# Altium schematic symbol library Transistors.SchLib: 8 symbols
Pins are listed as number, name and electrical type; pins without a type are passive.

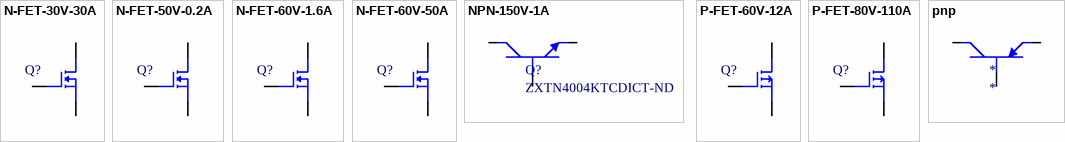
[diagram p0: symbols N-FET-30V-30A to pnp]

## N-FET-30V-30A
designator Q?, comment 1727-7117-1-ND  (value not drawn)
MOSFET N-CH 30V 30A D2PAK; Manufacturer: NXP Semiconductors; Manufacturer Part Number: PSMN022-30BL,118; Description: PSMN022-30BL - N-channel 30 V 22.6 m? logic level MOSFET in D2PAK; Rds On Max: 22.6mR; Input Capacitance: 447pF; Rise Time: 29ns; Max Power Dissipation: 41W; Gate to Source Voltage (Vgs): 20V; Turn-On Delay Time: 12ns; Turn-Off Delay Time: 17ns; Fall Time: 7ns; Number of Elements: 1; Element Configuration: Single; Supplier 1: Digi-Key; Stock 1: 3268; Pricing 1: 1=0.82, 10=0.721, 25=0.6776, 100=0.4919, 250=0.47436 (USD); Case/Package: SOT; Number of Pins: 3; Contact Plating: Tin; Min Operating Temperature: -55°C; Max Operating Temperature: 175°C; Package Quantity: 1; Packaging: Tape and Reel; Max Dual Supply Voltage: 30V; Drain to Source Voltage (Vdss): 30V; Continuous Drain Current (ID): 30A; Drain to Source Breakdown Voltage: 30V; Drain to Source Resistance: 22.6mR; Power Dissipation: 41W; Radiation Hardening: No; Lead Free: Lead Free; ComponentLink1URL: http://www.nxp.com/documents/data_sheet/PSMN022-30BL.pdf?src-supplier=Digi-Key; ComponentLink1Description: http://www.nxp.com/documents/data_sheet/PSMN022-30BL.pdf?src-supplier=Digi-Key; ComponentLink2URL: http://www.nxp.com/documents/data_sheet/PSMN022-30BL.pdf?src-supplier=Avnet; ComponentLink2Description: http://www.nxp.com/documents/data_sheet/PSMN022-30BL.pdf?src-supplier=Avnet; ComponentLink3URL: http://www.nxp.com/documents/data_sheet/PSMN022-30BL.pdf?src-supplier=Mouser; ComponentLink3Description: http://www.nxp.com/documents/data_sheet/PSMN022-30BL.pdf?src-supplier=Mouser; Supplier Part Number 1: 1727-7117-6-ND
footprint DPAK-TO263 (D2-PAK, 3-Pads, Body 8.00x8.51mm (max), IPC Medium Density)
pins: 1, 2, 3

## N-FET-50V-0.2A
designator Q?, comment BSS138LT3GOSCT-ND  (value not drawn)
MOSFET N-CH 50V 200MA SOT-23; Manufacturer: ON Semiconductor; Description: MOSFET N-Channel 50V 0.2A SOT23; Nominal Vgs: 500mV; Input Capacitance: 50pF; Number of Elements: 1; Max Power Dissipation: 225mW; Rds On Max: 3.5R; Turn-Off Delay Time: 20ns; Element Configuration: Single; Gate to Source Voltage (Vgs): 20V; Supplier 1: Digi-Key; Manufacturer Part Number: BSS138LT3G; Stock 1: 141691; Pricing 1: 1=0.25, 10=0.205, 25=0.172, 100=0.084, 250=0.08272, 500=0.0701, 1000=0.04871, 2500=0.04527, 5000=0.03916 (USD); Case/Package: SOT-23-3; Number of Pins: 3; Min Operating Temperature: -55°C; Max Operating Temperature: 150°C; Package Quantity: 1; Packaging: Tape and Reel; Drain to Source Voltage (Vdss): 50V; Continuous Drain Current (ID): 200mA; Drain to Source Breakdown Voltage: 50V; Power Dissipation: 225mW; Drain to Source Resistance: 3.5R; Threshold Voltage: 500mV; Turn-On Delay Time: 20ns; Voltage Rating (DC): 50V; Current Rating: 200mA; On-State Resistance: 3.5R; Length: 2.9mm; Height: 0.94mm; Width: 1.3mm; Radiation Hardening: No; REACH SVHC: No SVHC; Lead Free: Lead Free; Halogen Free: Halogen Free; ComponentLink1URL: http://www.onsemi.com/pub/Collateral/BSS138LT1-D.PDF?src-supplier=Digi-Key; ComponentLink1Description: http://www.onsemi.com/pub/Collateral/BSS138LT1-D.PDF?src-supplier=Digi-Key; ComponentLink2URL: http://www.farnell.com/datasheets/2353875.pdf?src-supplier=Element14; ComponentLink2Description: http://www.farnell.com/datasheets/2353875.pdf?src-supplier=Element14; ComponentLink3URL: http://www.onsemi.com/pub_link/Collateral/BSS138LT1-D.PDF?src-supplier=Avnet; ComponentLink3Description: http://www.onsemi.com/pub_link/Collateral/BSS138LT1-D.PDF?src-supplier=Avnet; ComponentLink4URL: https://www.verical.com/server-webapp/html/getDatasheet?partID=141721&src-supplier=Verical; ComponentLink4Description: https://www.verical.com/server-webapp/html/getDatasheet?partID=141721&src-supplier=Verical; ComponentLink5URL: http://www.onsemi.com/pub_link/Collateral/BSS138LT1-D.PDF?src-supplier=Future+Electronics; ComponentLink5Description: http://www.onsemi.com/pub_link/Collateral/BSS138LT1-D.PDF?src-supplier=Future+Electronics; Supplier Part Number 1: BSS138LT3GOSDKR-ND
footprint SOT-23-3 (SOT23, 3-Leads, Body 2.90x2.40mm, Pitch 0.92mm, IPC Medium Density)
pins: 1, 2, 3

## N-FET-60V-1.6A
designator Q?, comment DMN6140L-13DICT-ND  (value not drawn)
MOSFET N-CH 60V 1.6A SOT23; Manufacturer: Diodes; Rds On Max: 140mR; Input Capacitance: 315pF; Max Power Dissipation: 700mW; Supplier 1: Digi-Key; Manufacturer Part Number: DMN6140L-13; Stock 1: 274948; Pricing 1: 1=0.34, 10=0.256, 25=0.224, 100=0.1217, 250=0.12104, 500=0.09926, 1000=0.07365, 2500=0.06468, 5000=0.05924 (USD); Mount: Surface Mount; Case/Package: TO-236-3; Min Operating Temperature: -55°C; Max Operating Temperature: 150°C; Package Quantity: 10000; Packaging: Cut Tape; Drain to Source Voltage (Vdss): 60V; Continuous Drain Current (ID): 1.6A; ComponentLink1URL: https://www.diodes.com/assets/Datasheets/DMN6140L.pdf?src-supplier=Digi-Key; ComponentLink1Description: https://www.diodes.com/assets/Datasheets/DMN6140L.pdf?src-supplier=Digi-Key; Supplier Part Number 1: DMN6140L-13DIDKR-ND
footprint SOT-23-3 (SOT23, 3-Leads, Body 2.90x2.40mm, Pitch 0.92mm, IPC Medium Density)
pins: 1, 2, 3

## N-FET-60V-50A
designator Q?, comment IPD50N06S4L12ATMA2CT-ND  (value not drawn)
MOSFET N-CH 60V 50A TO252-3; Manufacturer: Infineon; Description: Trans MOSFET N-CH 60V 50A 3-Pin(2+Tab) TO-252; Rise Time: 2ns; Rds On Max: 12mR; Input Capacitance: 2.89nF; Max Power Dissipation: 50W; Turn-On Delay Time: 6ns; Turn-Off Delay Time: 25ns; Fall Time: 5ns; Gate to Source Voltage (Vgs): 16V; Manufacturer Part Number: IPD50N06S4L12ATMA2; Stock 1: 3187; Pricing 1: 1=0.92, 10=0.806, 25=0.7572, 100=0.5497, 250=0.53012, 500=0.45928, 1000=0.39088 (USD); Mount: Surface Mount; Case/Package: TO-252-3; Number of Pins: 3; Min Operating Temperature: -55°C; Max Operating Temperature: 175°C; Packaging: Tape and Reel; Drain to Source Voltage (Vdss): 60V; Continuous Drain Current (ID): 50A; Max Dual Supply Voltage: 60V; Supplier Part Number 1: IPD50N06S4L12ATMA2DKR-ND; Supplier 1: Digi-Key
footprint DPAK-TO252 (D-PAK, 3-Pads, Body 6.20x6.73mm (max), IPC Medium Density)
pins: 1, 2, 3

## NPN-150V-1A
designator Q?, comment ZXTN4004KTCDICT-ND
TRANS NPN 150V 1A TO252; Manufacturer: Diodes; Max Power Dissipation: 3.8W; Number of Elements: 1; hFE Min: 100; Emitter Base Voltage (VEBO): 7V; Element Configuration: Single; Supplier 1: Digi-Key; Manufacturer Part Number: ZXTN4004KTC; Stock 1: 16465; Pricing 1: 1=0.44, 10=0.374, 25=0.3492, 100=0.2595, 250=0.24648, 500=0.20258, 1000=0.16465 (USD); Mount: Surface Mount; Case/Package: TO-252; Number of Pins: 3; Weight: 0.063493oz; Min Operating Temperature: -55°C; Max Operating Temperature: 150°C; Packaging: Tape and Reel; Package Quantity: 2500; Polarity: NPN; Collector Emitter Voltage (VCEO): 150V; Collector Base Voltage (VCBO): 150V; Continuous Collector Current: 1A; Max Collector Current: 1A; Collector Emitter Breakdown Voltage: 150V; Max Breakdown Voltage: 150V; Power Dissipation: 3.8W; Length: 6.7mm; Height: 6.2mm; Width: 2.39mm; Radiation Hardening: No; Lead Free: Lead Free; REACH SVHC: No SVHC; ComponentLink1URL: http://www.mouser.com/ds/2/115/ZXTN4004K-219140.pdf?src-supplier=Mouser; ComponentLink1Description: http://www.mouser.com/ds/2/115/ZXTN4004K-219140.pdf?src-supplier=Mouser; ComponentLink2URL: http://www.diodes.com/datasheets/ZXTN4004K.pdf?src-supplier=Avnet; ComponentLink2Description: http://www.diodes.com/datasheets/ZXTN4004K.pdf?src-supplier=Avnet; ComponentLink3URL: http://www.diodes.com/datasheets/ZXTN4004K.pdf?src-supplier=Avnet+Europe; ComponentLink3Description: http://www.diodes.com/datasheets/ZXTN4004K.pdf?src-supplier=Avnet+Europe; ComponentLink4URL: https://www.diodes.com/assets/Datasheets/ZXTN4004K.pdf?src-supplier=Digi-Key; ComponentLink4Description: https://www.diodes.com/assets/Datasheets/ZXTN4004K.pdf?src-supplier=Digi-Key; Supplier Part Number 1: ZXTN4004KTCDIDKR-ND
footprint DPAK-TO252 (D-PAK, 3-Pads, Body 6.20x6.73mm (max), IPC Medium Density)
pins: 1, 2, 3

## P-FET-60V-12A
designator Q?, comment NTD2955T4GOSCT-ND  (value not drawn)
MOSFET P-CH 60V 12A DPAK; Manufacturer: ON Semiconductor; Description: ON SEMICONDUCTOR         NTD2955T4G.            P CHANNEL MOSFET, -60V, 12A, D-PAK, FULL REEL; Rise Time: 45ns; Nominal Vgs: -2.8V; Input Capacitance: 750pF; Max Power Dissipation: 55W; Number of Elements: 1; Rds On Max: 180mR; Fall Time: 48ns; Drain to Source Resistance: 155mR; Turn-Off Delay Time: 26ns; Drain to Source Voltage (Vdss): -60V; Turn-On Delay Time: 10ns; Element Configuration: Single; Gate to Source Voltage (Vgs): 20V; Current Rating: -12A; Supplier 1: Digi-Key; Manufacturer Part Number: NTD2955T4G; Stock 1: 9993; Pricing 1: 1=0.76, 10=0.672, 25=0.6316, 100=0.4583, 250=0.44204, 500=0.38296, 1000=0.32592 (USD); Case/Package: DPAK; Number of Pins: 3; Contact Plating: Tin,Matte; Min Operating Temperature: -55°C; Max Operating Temperature: 175°C; Package Quantity: 1; Packaging: Tape and Reel; Power Dissipation: 55W; Continuous Drain Current (ID): 12A; Threshold Voltage: -2.8V; Drain to Source Breakdown Voltage: -60V; Voltage Rating (DC): -60V; On-State Resistance: 180mR; Number of Channels: 1; Length: 6.73mm; Height: 2.38mm; Width: 6.22mm; Radiation Hardening: No; REACH SVHC: No SVHC; Lead Free: Lead Free; ComponentLink1URL: http://www.onsemi.com/pub/Collateral/NTD2955-D.PDF?src-supplier=Avnet; ComponentLink1Description: http://www.onsemi.com/pub/Collateral/NTD2955-D.PDF?src-supplier=Avnet; ComponentLink2URL: http://www.onsemi.com/pub/Collateral/NTD2955-D.PDF?src-supplier=Avnet+Europe; ComponentLink2Description: http://www.onsemi.com/pub/Collateral/NTD2955-D.PDF?src-supplier=Avnet+Europe; ComponentLink3URL: http://www.onsemi.com/pub_link/Collateral/NTD2955-D.PDF?src-supplier=Element14; ComponentLink3Description: http://www.onsemi.com/pub_link/Collateral/NTD2955-D.PDF?src-supplier=Element14; ComponentLink4URL: http://www.onsemi.com/pub/Collateral/NTD2955-D.PDF?src-supplier=Digi-Key; ComponentLink4Description: http://www.onsemi.com/pub/Collateral/NTD2955-D.PDF?src-supplier=Digi-Key; ComponentLink5URL: http://www.jameco.com/Jameco/Products/ProdDS/1178118.pdf?src-supplier=Jameco; ComponentLink5Description: http://www.jameco.com/Jameco/Products/ProdDS/1178118.pdf?src-supplier=Jameco; Supplier Part Number 1: NTD2955T4GOSDKR-ND
footprint DPAK-TO252 (D-PAK, 3-Pads, Body 6.20x6.73mm (max), IPC Medium Density)
pins: 1, 2, 3

## P-FET-80V-110A
designator Q?, comment SUM110P08-11L-E3CT-ND  (value not drawn)
MOSFET P-CH 80V 110A D2PAK; Manufacturer: Vishay; Description: Trans MOSFET P-CH 80V 23.5A 3-Pin(2+Tab) TO-263; Continuous Drain Current (ID): 23.5A; Drain to Source Voltage (Vdss): -80V; Threshold Voltage: -3V; Max Power Dissipation: 375W; Number of Elements: 1; Power Dissipation: 13.6W; Gate to Source Voltage (Vgs): 20V; Fall Time: 550ns; Turn-On Delay Time: 20ns; Rise Time: 330ns; Turn-Off Delay Time: 135ns; Drain to Source Resistance: 11.1mR; Supplier 1: Digi-Key; Manufacturer Part Number: SUM110P08-11L-E3; Stock 1: 2267; Pricing 1: 1=4.43, 10=3.975, 25=3.7576, 100=3.006, 250=2.839 (USD); Mount: Surface Mount; Case/Package: TO-263; Number of Pins: 3; Contact Plating: Tin,Matte; Min Operating Temperature: -50°C; Max Operating Temperature: 175°C; Packaging: Tape and Reel; REACH SVHC: No SVHC; Lead Free: Lead Free; ComponentLink1URL: http://www.vishay.com/docs/73472/sum110p0.pdf?src-supplier=Future+Electronics; ComponentLink1Description: http://www.vishay.com/docs/73472/sum110p0.pdf?src-supplier=Future+Electronics; Supplier Part Number 1: SUM110P08-11L-E3DKR-ND
footprint DPAK-TO263 (D2-PAK, 3-Pads, Body 8.00x8.51mm (max), IPC Medium Density)
pins: 1, 2, 3

## pnp
designator *
pins: 1, 2, 3